# Altium schematic symbol library MCP6002T-I.SchLib: 1 symbol
Pins are listed as number, name and electrical type; pins without a type are passive.

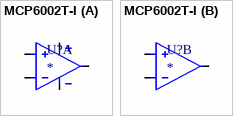
[diagram p0: symbol MCP6002T-I]

## MCP6002T-I
designator U?
part A pins: 1 OUT_A, 2 -IN_A, 3 +IN_A, 4 V-, 8 V+
part B pins: 5 +IN_B, 6 -IN_B, 7 OUT_B